# Altium footprint library Small Signal Switching Diodes.PcbLib: 3 footprints
Each footprint in its own frame and in the unit in brackets; x right, y up, seen from the top. Pads: shape width x height; smd on the part's side, far side on the other; paste and mask are expansions set on the pad; w line width, h text height; cw(c..) or ccw(c..) is an arc to the next point about the centre after c.
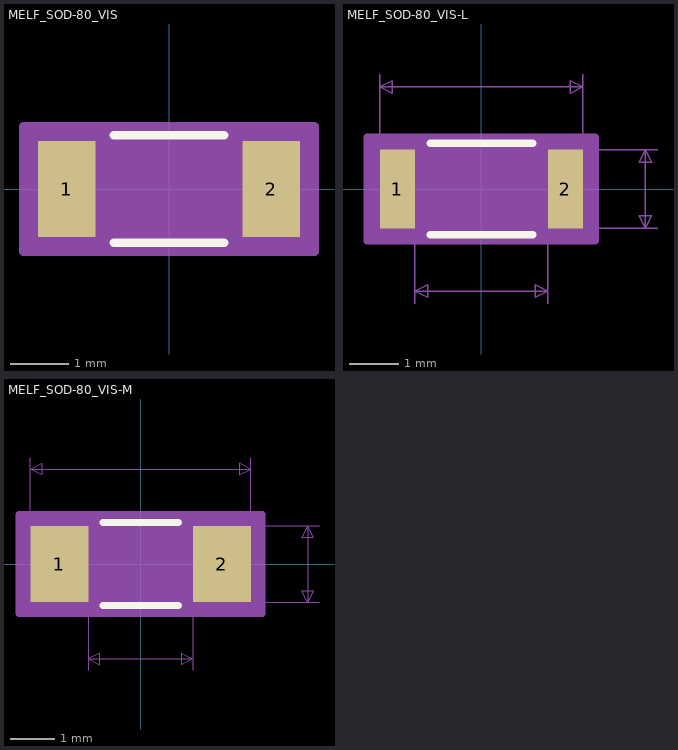
[diagram p0: the footprints below, top view; thin cyan lines are the x and y axes]

## MELF_SOD-80_VIS [mil]
pads (2):
  rect 39x65 smd paste+0 mask+0: 1(-69.5,0) 2(69.5,0)
Top Overlay:
  lines w6: -37.53,-36.5 37.53,-36.5 ; -37.53,36.5 37.53,36.5
Mechanical 5:
  region: 96.5,-40 -96.5,-40 -96.5,40 96.5,40
Mechanical 13:
  lines w1: -73,-15.75 -57.25,-31.5 ; -73,15.75 -57.25,31.5 ; -73,-31.5 -73,31.5 73,31.5 73,-31.5 -73,-31.5
Mechanical 15:
  region: 99,-42.5 -99,-42.5 -99,42.5 99,42.5
  lines w6: -99,-42.5 99,-42.5 99,42.5 -99,42.5 -99,-42.5
3D body: height 10, standoff 0, extent 0,0 10,10

## MELF_SOD-80_VIS-L [mil]
pads (2):
  rect 28x63 smd paste+0 mask+0: 1(-67,0) 2(67,0)
Top Overlay:
  lines w6: -40.89,-36.5 40.89,-36.5 ; -40.89,36.5 40.89,36.5
Mechanical 5:
  region: 88.5,-39 -88.5,-39 -88.5,39 88.5,39
Mechanical 7:
  lines w1: -81,41.5 -81,91.5 ; -53,-91.5 -53,-41.5 ; 53,-91.5 53,-41.5 ; 81,41.5 81,91.5 ; 91,-31.5 141,-31.5 ; 91,31.5 141,31.5 ; -81,81.5 81,81.5 ; -81,81.5 -71,86.5 -71,76.5 -81,81.5 ; -53,-81.5 53,-81.5 ; -53,-81.5 -43,-86.5 -43,-76.5 -53,-81.5 ; 53,-81.5 43,-86.5 43,-76.5 53,-81.5 ; 81,81.5 71,86.5 71,76.5 81,81.5 ; 131,-31.5 131,31.5 ; 131,-31.5 126,-21.5 136,-21.5 131,-31.5 ; 131,31.5 126,21.5 136,21.5 131,31.5
  text "Default Padstyle: RX28Y63D0T" at -350,-201.5 h50
  text "Alt 1 Padstyle: OX60Y90D30P" at -337.5,-261.5 h50
  text "Alt 2 Padstyle: OX90Y60D30P" at -337.5,-321.5 h50
  text ".063in/1.6mm" at 141,-12.5 h25
Mechanical 13:
  lines w1: -73,-15.75 -57.25,-31.5 ; -73,15.75 -57.25,31.5 ; -73,-31.5 73,-31.5 73,31.5 -73,31.5 -73,-31.5
Mechanical 15:
  region: 91,-41.5 -91,-41.5 -91,41.5 91,41.5
  lines w6: -91,-41.5 -91,41.5 91,41.5 91,-41.5 -91,-41.5
3D body: height 10, standoff 0, extent 0,0 10,10

## MELF_SOD-80_VIS-M [mil]
pads (2):
  rect 51x67 smd paste+0 mask+0: 1(-71.5,0) 2(71.5,0)
Top Overlay:
  lines w6: -33.25,-36.5 33.25,-36.5 ; -33.25,36.5 33.25,36.5
Mechanical 5:
  region: 104.5,-41 -104.5,-41 -104.5,41 104.5,41
Mechanical 7:
  lines w1: -97,43.5 -97,93.5 ; -46,-93.5 -46,-43.5 ; 46,-93.5 46,-43.5 ; 97,43.5 97,93.5 ; 107,-33.5 157,-33.5 ; 107,33.5 157,33.5 ; -97,83.5 97,83.5 ; -97,83.5 -87,88.5 -87,78.5 -97,83.5 ; -46,-83.5 46,-83.5 ; -46,-83.5 -36,-88.5 -36,-78.5 -46,-83.5 ; 46,-83.5 36,-88.5 36,-78.5 46,-83.5 ; 97,83.5 87,88.5 87,78.5 97,83.5 ; 147,-33.5 147,33.5 ; 147,-33.5 142,-23.5 152,-23.5 147,-33.5 ; 147,33.5 142,23.5 152,23.5 147,33.5
  text "Default Padstyle: RX51Y67D0T" at -350,-203.5 h50
  text "Alt 1 Padstyle: OX60Y90D30P" at -337.5,-263.5 h50
  text "Alt 2 Padstyle: OX90Y60D30P" at -337.5,-323.5 h50
  text ".067in/1.702mm" at 157,-12.5 h25
Mechanical 13:
  lines w1: -73,-15.75 -57.25,-31.5 ; -73,15.75 -57.25,31.5 ; -73,-31.5 73,-31.5 73,31.5 -73,31.5 -73,-31.5
Mechanical 15:
  region: 107,-43.5 -107,-43.5 -107,43.5 107,43.5
  lines w6: -107,-43.5 -107,43.5 107,43.5 107,-43.5 -107,-43.5
3D body: height 10, standoff 0, extent 0,0 10,10